# Altium schematic symbol library myConnectors.SchLib: 60 symbols
Pins are listed as number, name and electrical type; pins without a type are passive.

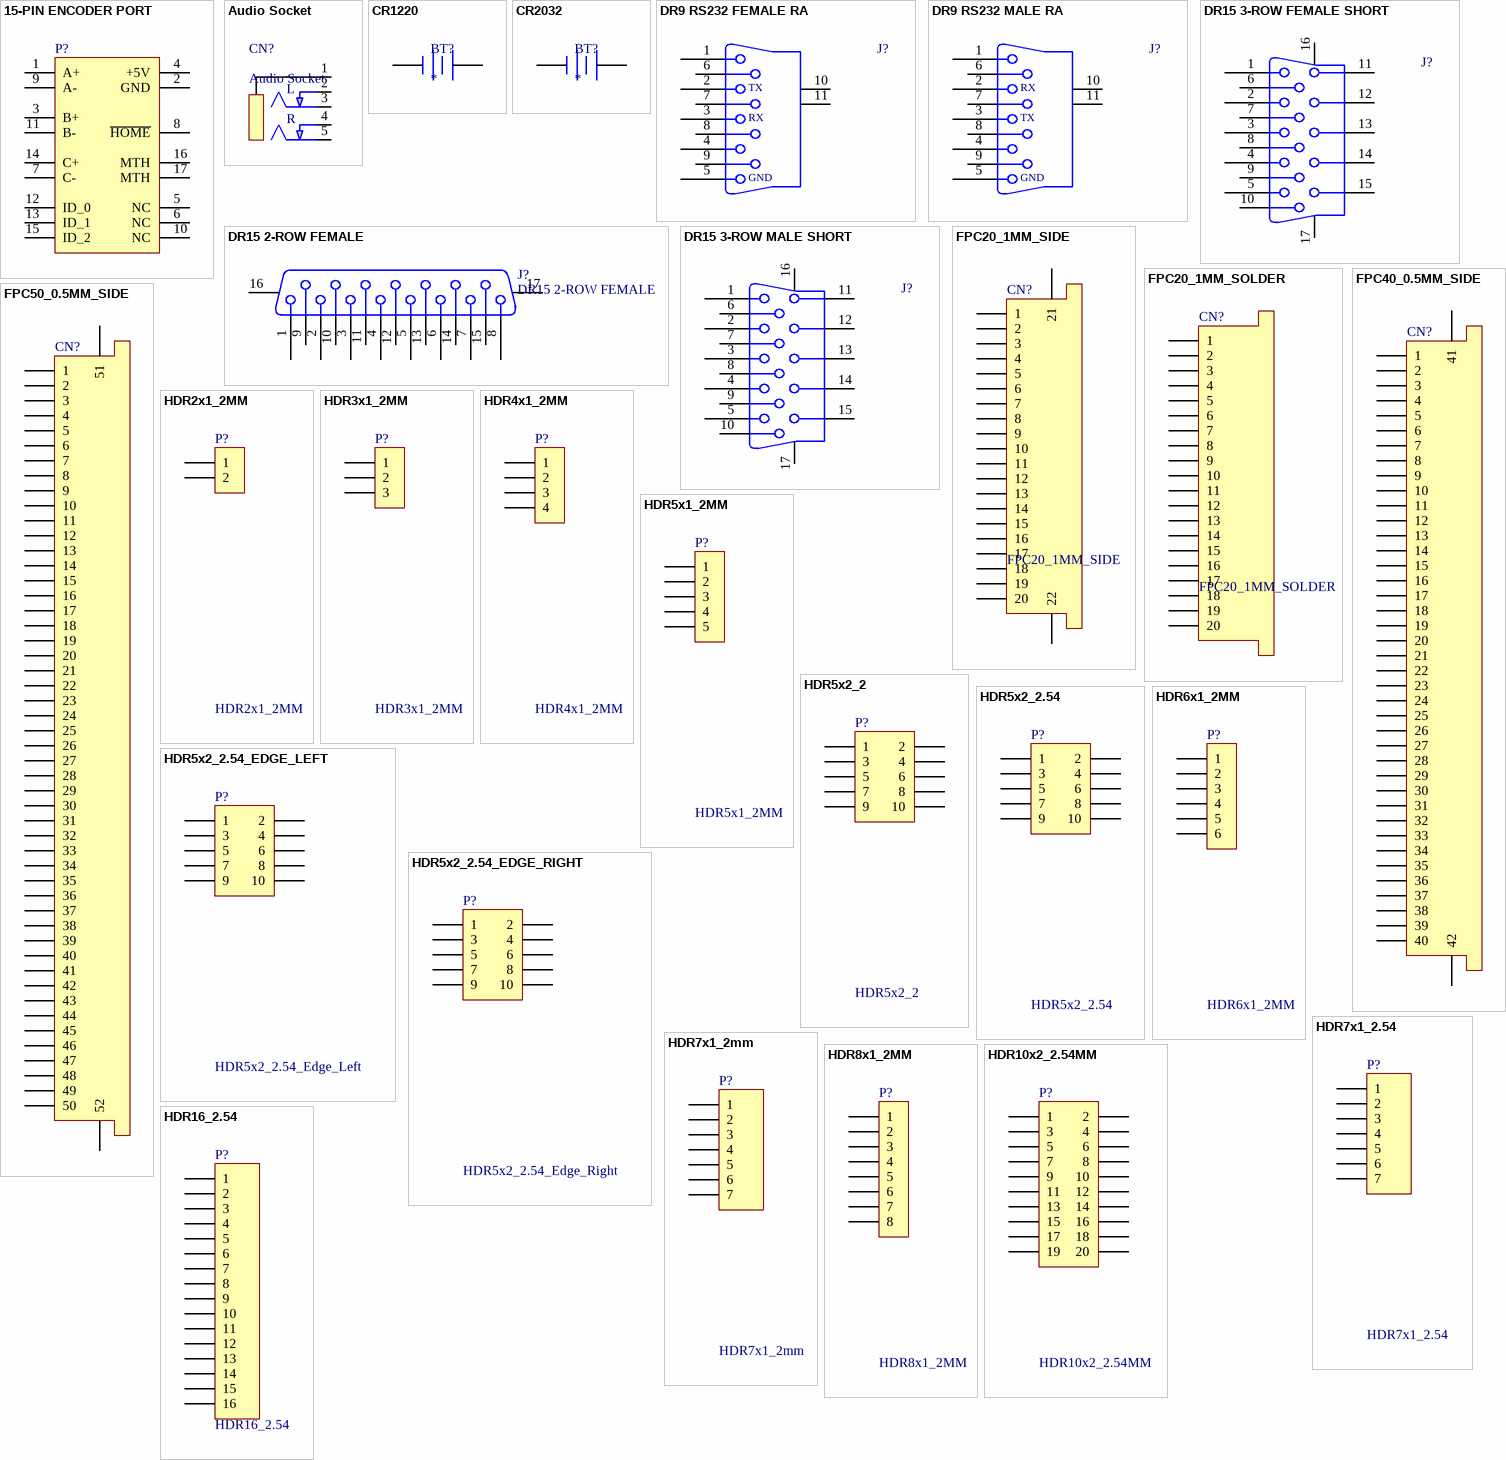
[diagram p0: symbols 15-PIN ENCODER PORT to HDR16_2.54]

## 15-PIN ENCODER PORT
designator P?, comment 15-PIN ENC PORT  (value not drawn)
LatestRevisionDate: 17-Jul-2002; LatestRevisionNote: Re-released for DXP Platform.; Publisher: Altium Limited
footprint DR15 FEMALE RA SHORT _PRE (15-PIN FEMALE, 3-ROW, RIGHT ANGLE, SHORT)
pins: 1 A+, 2 GND, 3 B+, 4 +5V, 5 NC, 6 NC, 7 C-, 8 ~{HOME}, 9 A-, 10 NC, 11 B-, 12 ID_0, 13 ID_1, 14 C+, 15 ID_2, 16 MTH, 17 MTH

## Audio Socket
designator CN?
Audio Socket, Stereo
footprint Audio Socket
pins: 1 GND, 2 L "isolated when inserted", 3 L "always connected", 4 R "isolated when inserted", 5 R "always connected"

## CR1220
designator BT?
CR1220 Battery Holder
footprint CR1220
pins: 1 +, 2 -

## CR2032
designator BT?
CR1220 Battery Holder
footprint CR2032
pins: 1 +, 2 -

## DR9 RS232 FEMALE RA
designator J?  (value not drawn)
PackageDocument: O; Positions: 9; Gender: Receptacle; Published: 15-Jun-2001; LatestRevisionDate: 17-Jul-2002; LatestRevisionNote: Re-released for DXP Platform.; DatasheetDocument: 1-Sep-1999; PackageReference: 788750; Publisher: Altium Limited; Orientation: Right Angle
footprint DR9 RS232 FEMALE RA (9-PIN PORT FEMALE, RIGHT ANGLE)
pins: 1, 2, 3, 4, 5, 6, 7, 8, 9, 10 MH1, 11 MH2
text: TX; RX; GND

## DR9 RS232 MALE RA
designator J?  (value not drawn)
PackageDocument: O; Positions: 9; Gender: Receptacle; Published: 15-Jun-2001; LatestRevisionDate: 17-Jul-2002; LatestRevisionNote: Re-released for DXP Platform.; DatasheetDocument: 1-Sep-1999; PackageReference: 788750; Publisher: Altium Limited; Orientation: Right Angle
footprint DR9 RS232 MALE RA (9-PIN PORT MALE, RIGHT ANGLE)
pins: 1, 2, 3, 4, 5, 6, 7, 8, 9, 10 MH1, 11 MH2
text: RX; TX; GND

## DR15 2-ROW FEMALE
designator J?
DR15 FEMALE RA; PackageDocument: O; Positions: 15; Gender: Receptacle; Published: 15-Jun-2001; LatestRevisionDate: 17-Jul-2002; LatestRevisionNote: Re-released for DXP Platform.; DatasheetDocument: 1-Sep-99; PackageReference: 788757; Publisher: Altium Limited; Orientation: Right Angle
footprint DR15_FEMALE (Connector; D Subminiature; 15 Position; Right Angle; Pitch 1.385 mm)
pins: 1, 2, 3, 4, 5, 6, 7, 8, 9, 10, 11, 12, 13, 14, 15, 16 MH1, 17 MH2

## DR15 3-ROW FEMALE SHORT
designator J?, comment DR15 3-ROW FEMALE  (value not drawn)
DR15 FEMALE RA; PackageDocument: O; Positions: 9; Gender: Receptacle; Published: 15-Jun-2001; LatestRevisionDate: 17-Jul-2002; LatestRevisionNote: Re-released for DXP Platform.; DatasheetDocument: 1-Sep-1999; PackageReference: 788750; Publisher: Altium Limited; Orientation: Right Angle
footprint DR15 FEMALE RA SHORT _PRE (15-PIN FEMALE, 3-ROW, RIGHT ANGLE, SHORT)
pins: 1, 2, 3, 4, 5, 6, 7, 8, 9, 10, 11, 12, 13, 14, 15, 16 MH1, 17 MH2

## DR15 3-ROW MALE SHORT
designator J?, comment DR15 3-ROW MALE  (value not drawn)
DR15 MALE RA; PackageDocument: O; Positions: 9; Gender: Receptacle; Published: 15-Jun-2001; LatestRevisionDate: 17-Jul-2002; LatestRevisionNote: Re-released for DXP Platform.; DatasheetDocument: 1-Sep-1999; PackageReference: 788750; Publisher: Altium Limited; Orientation: Right Angle
footprint DR15 MALE RA SHORT _PRE (15-PIN MALE, 3-ROW, RIGHT ANGLE, SHORT)
pins: 1, 2, 3, 4, 5, 6, 7, 8, 9, 10, 11, 12, 13, 14, 15, 16 MH1, 17 MH2

## FPC20_1MM_SIDE
designator CN?
FPC Socket, 1mm pitch, 20-Pin, Side Mount; LatestRevisionDate: 17-Jul-2002; LatestRevisionNote: Re-released for DXP Platform.; Publisher: Altium Limited
footprint FPC20_1MM_SIDE (FPC Socket, 1mm pitch, 20-Pin, Side Mount)
pins: 1, 2, 3, 4, 5, 6, 7, 8, 9, 10, 11, 12, 13, 14, 15, 16, 17, 18, 19, 20, 21, 22

## FPC20_1MM_SOLDER
designator CN?
FPC Socket, 1mm pitch, 20-Pin, Solder Mount; LatestRevisionDate: 17-Jul-2002; LatestRevisionNote: Re-released for DXP Platform.; Publisher: Altium Limited
footprint FPC20_1mm Solder (FPC 20-Pin, Solder Pads)
pins: 1, 2, 3, 4, 5, 6, 7, 8, 9, 10, 11, 12, 13, 14, 15, 16, 17, 18, 19, 20

## FPC40_0.5MM_SIDE
designator CN?  (value not drawn)
FPC Socket, 0.5mm pitch, 40-Pin, Side Mount; LatestRevisionDate: 17-Jul-2002; LatestRevisionNote: Re-released for DXP Platform.; Publisher: Altium Limited
footprint FPC40_0.5MM_SIDE (FPC Socket, 0.5mm pitch, 40-Pin, Side Mount)
pins: 1, 2, 3, 4, 5, 6, 7, 8, 9, 10, 11, 12, 13, 14, 15, 16, 17, 18, 19, 20, 21, 22, 23, 24, 25, 26, 27, 28, 29, 30, 31, 32, 33, 34, 35, 36, 37, 38, 39, 40, 41, 42

## FPC50_0.5MM_SIDE
designator CN?  (value not drawn)
FPC Socket, 0.5mm pitch, 50-Pin, Side Mount; LatestRevisionDate: 17-Jul-2002; LatestRevisionNote: Re-released for DXP Platform.; Publisher: Altium Limited
footprint FPC50_0.5MM_SIDE (FPC Socket, 0.5mm pitch, 50-Pin, Side Mount)
pins: 1, 2, 3, 4, 5, 6, 7, 8, 9, 10, 11, 12, 13, 14, 15, 16, 17, 18, 19, 20, 21, 22, 23, 24, 25, 26, 27, 28, 29, 30, 31, 32, 33, 34, 35, 36, 37, 38, 39, 40, 41, 42, 43, 44, 45, 46, 47, 48, 49, 50, 51, 52

## HDR2x1_2MM
designator P?
Header, 2-Pin, 1-Row, 2mm Pitch; LatestRevisionDate: 17-Jul-2002; LatestRevisionNote: Re-released for DXP Platform.; Publisher: Altium Limited
footprint HDR2x1_2mm
pins: 1, 2

## HDR3x1_2MM
designator P?
Header, 3-Pin, 1-Row, 2mm Pitch; LatestRevisionDate: 17-Jul-2002; LatestRevisionNote: Re-released for DXP Platform.; Publisher: Altium Limited
footprint HDR3x1_2mm
pins: 1, 2, 3

## HDR4x1_2MM
designator P?
Header, 4-Pin, 1-Row, 2mm Pitch; LatestRevisionDate: 17-Jul-2002; LatestRevisionNote: Re-released for DXP Platform.; Publisher: Altium Limited
footprint HDR4x1_1
pins: 1, 2, 3, 4

## HDR5x1_2MM
designator P?
Header, 5-Pin, 1-Row, 2mm Pitch; LatestRevisionDate: 17-Jul-2002; LatestRevisionNote: Re-released for DXP Platform.; Publisher: Altium Limited
footprint HDR5x1_2mm
pins: 1, 2, 3, 4, 5

## HDR5x2_2
designator P?
Header, 10-Pin, 2-Row, 2mm Pitch; LatestRevisionDate: 17-Jul-2002; LatestRevisionNote: Re-released for DXP Platform.; Publisher: Altium Limited
footprint HDR5x2_2
pins: 1, 2, 3, 4, 5, 6, 7, 8, 9, 10

## HDR5x2_2.54
designator P?
Header, 10-Pin, 2-Row; LatestRevisionDate: 17-Jul-2002; LatestRevisionNote: Re-released for DXP Platform.; Publisher: Altium Limited
footprint HDR5x2_2.54
pins: 1, 2, 3, 4, 5, 6, 7, 8, 9, 10

## HDR5x2_2.54_EDGE_LEFT
designator P?, comment HDR5x2_2.54_Edge_Left
Header, 10-Pin, 2-Row; LatestRevisionDate: 17-Jul-2002; LatestRevisionNote: Re-released for DXP Platform.; Publisher: Altium Limited
footprint HDR5X2_2.54_EDGE_LEFT
pins: 1, 2, 3, 4, 5, 6, 7, 8, 9, 10

## HDR5x2_2.54_EDGE_RIGHT
designator P?, comment HDR5x2_2.54_Edge_Right
Header, 10-Pin, 2-Row; LatestRevisionDate: 17-Jul-2002; LatestRevisionNote: Re-released for DXP Platform.; Publisher: Altium Limited
footprint HDR5X2_2.54_EDGE_RIGHT
pins: 1, 2, 3, 4, 5, 6, 7, 8, 9, 10

## HDR6x1_2MM
designator P?
Header, 6-Pin, 1-Row, 2mm Pitch; LatestRevisionDate: 17-Jul-2002; LatestRevisionNote: Re-released for DXP Platform.; Publisher: Altium Limited
footprint HDR6x1_2mm
pins: 1, 2, 3, 4, 5, 6

## HDR7x1_2.54
designator P?
Header, 7-Pin, 1-Row; LatestRevisionDate: 17-Jul-2002; LatestRevisionNote: Re-released for DXP Platform.; Publisher: Altium Limited
footprint HDR7x1_2.54
pins: 1, 2, 3, 4, 5, 6, 7

## HDR7x1_2mm
designator P?
Header, 7-Pin, 1-Row, 2mm-Pitch; LatestRevisionDate: 17-Jul-2002; LatestRevisionNote: Re-released for DXP Platform.; Publisher: Altium Limited
footprint HDR7x1_2mm
pins: 1, 2, 3, 4, 5, 6, 7

## HDR8x1_2MM
designator P?
Header, 8-Pin, 1-Row, 2mm Pitch; LatestRevisionDate: 17-Jul-2002; LatestRevisionNote: Re-released for DXP Platform.; Publisher: Altium Limited
footprint HDR8x1_2mm
pins: 1, 2, 3, 4, 5, 6, 7, 8

## HDR10x2_2.54MM
designator P?
Header, 10x2-Pin, 1-Row, 2.54mm Pitch; LatestRevisionDate: 17-Jul-2002; LatestRevisionNote: Re-released for DXP Platform.; Publisher: Altium Limited
footprint HDR10x2_2.54
pins: 1, 2, 3, 4, 5, 6, 7, 8, 9, 10, 11, 12, 13, 14, 15, 16, 17, 18, 19, 20

## HDR16_2.54
designator P?
Header, 16-Pin; LatestRevisionDate: 17-Jul-2002; LatestRevisionNote: Re-released for DXP Platform.; Publisher: Altium Limited
footprint HDR16_2.54 (Connector; Header; 16 Position)
pins: 1, 2, 3, 4, 5, 6, 7, 8, 9, 10, 11, 12, 13, 14, 15, 16

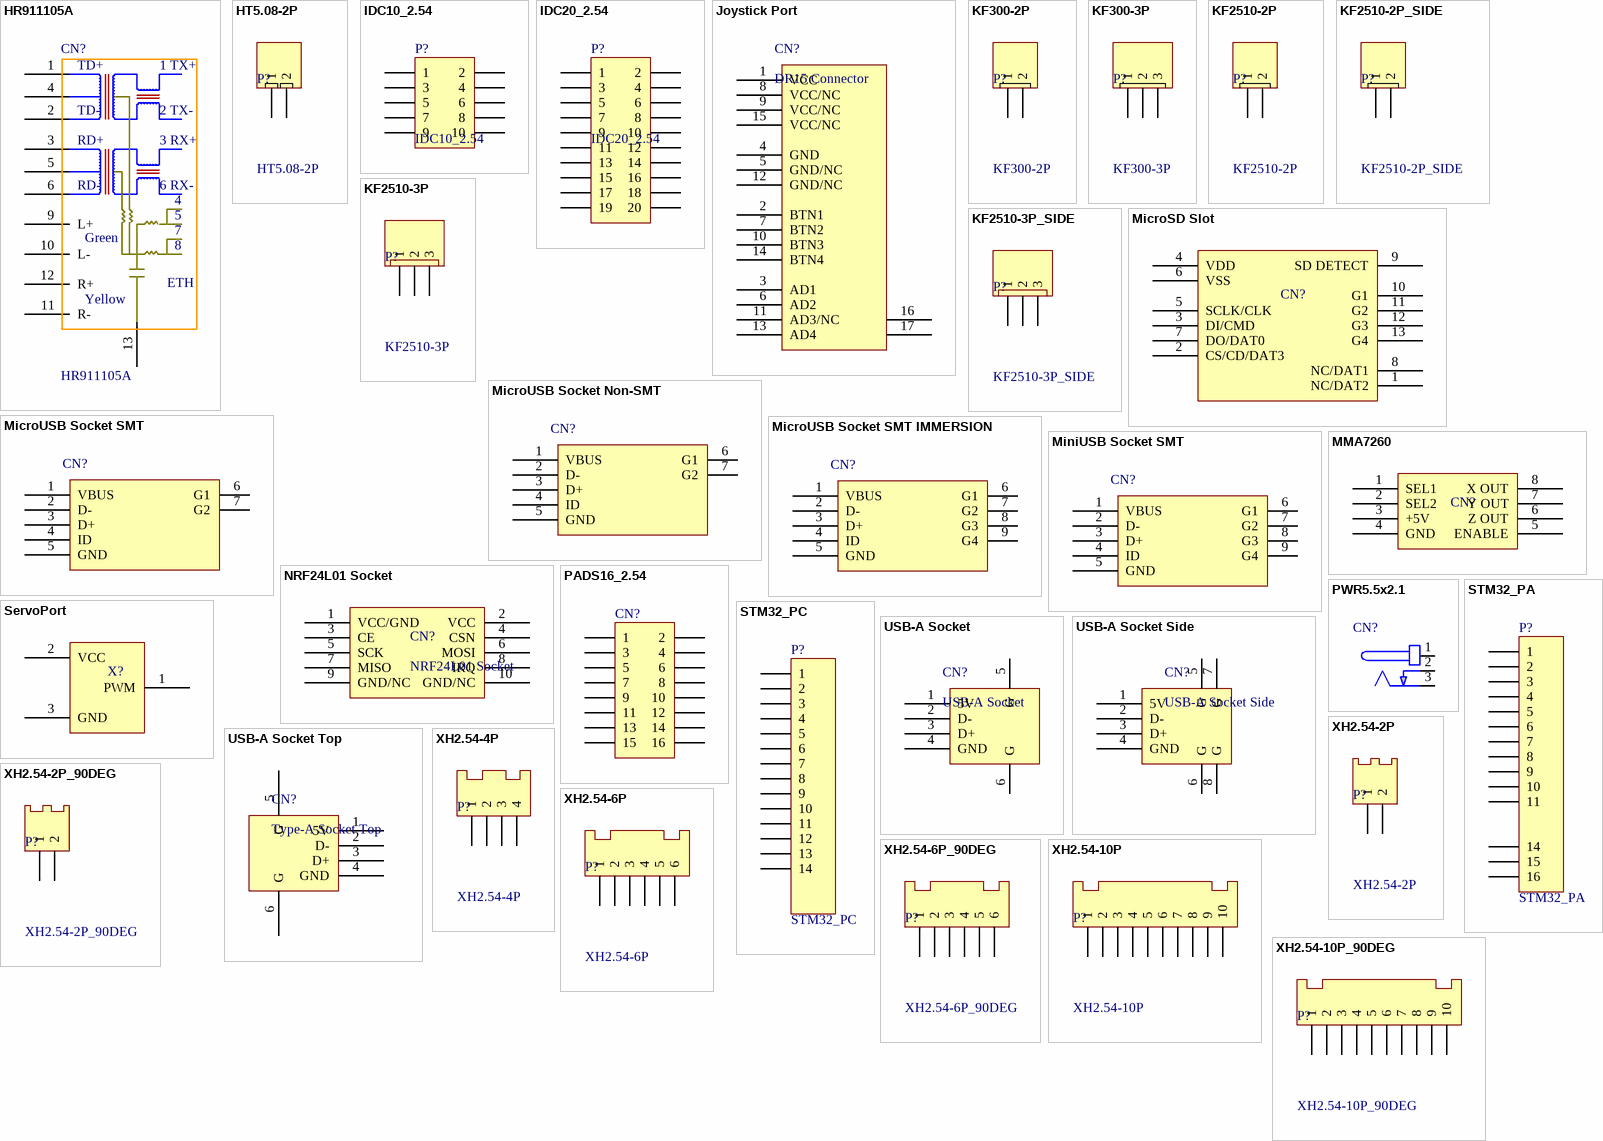
[diagram p1: symbols HR911105A to XH2.54-10P_90DEG]

## HR911105A
designator CN?
Ethernet Socket with Transformer
footprint HR911105A (Ethernet Socket with Transformer)
pins: 1, 2, 3, 4, 5, 6, 9 L+, 10 L-, 11 R-, 12 R+, 13
2 alternate drawings of the same symbol
text: TD+; 1 TX+; TD-; 2 TX-; RD+; 3 RX+; RD-; 6 RX-; 7; Green; 8; ETH; Yellow

## HT5.08-2P
designator P?
LatestRevisionDate: 17-Jul-2002; LatestRevisionNote: Re-released for DXP Platform.; Publisher: Altium Limited
footprint HT5.08-2P_TOP
pins: 1, 2

## IDC10_2.54
designator P?
LatestRevisionDate: 17-Jul-2002; LatestRevisionNote: Re-released for DXP Platform.; Publisher: Altium Limited
footprint IDC10_2.54
pins: 1, 2, 3, 4, 5, 6, 7, 8, 9, 10

## IDC20_2.54
designator P?
LatestRevisionDate: 17-Jul-2002; LatestRevisionNote: Re-released for DXP Platform.; Publisher: Altium Limited
footprint IDC20_2.54
pins: 1, 2, 3, 4, 5, 6, 7, 8, 9, 10, 11, 12, 13, 14, 15, 16, 17, 18, 19, 20

## Joystick Port
designator CN?, comment DR15 Connector
footprint DR15_FEMALE (Connector; D Subminiature; 15 Position; Right Angle; Pitch 1.385 mm)
pins: 1 VCC, 2 BTN1, 3 AD1, 4 GND, 5 GND/NC, 6 AD2, 7 BTN2, 8 VCC/NC, 9 VCC/NC, 10 BTN3, 11 AD3/NC, 12 GND/NC, 13 AD4, 14 BTN4, 15 VCC/NC, 16, 17

## KF300-2P
designator P?
LatestRevisionDate: 17-Jul-2002; LatestRevisionNote: Re-released for DXP Platform.; Publisher: Altium Limited
footprint KF300-2P
pins: 1, 2

## KF300-3P
designator P?
LatestRevisionDate: 17-Jul-2002; LatestRevisionNote: Re-released for DXP Platform.; Publisher: Altium Limited
footprint KF300-3P
pins: 1, 2, 3

## KF2510-2P
designator P?
LatestRevisionDate: 17-Jul-2002; LatestRevisionNote: Re-released for DXP Platform.; Publisher: Altium Limited
footprint KF2510-2P
pins: 1, 2

## KF2510-2P_SIDE
designator P?
KF2510-2P; LatestRevisionDate: 17-Jul-2002; LatestRevisionNote: Re-released for DXP Platform.; Publisher: Altium Limited
footprint KF2510-2P - Side
pins: 1, 2

## KF2510-3P
designator P?
LatestRevisionDate: 17-Jul-2002; LatestRevisionNote: Re-released for DXP Platform.; Publisher: Altium Limited
footprint KF2510-3P
pins: 1, 2, 3

## KF2510-3P_SIDE
designator P?
KF2510-3P; LatestRevisionDate: 17-Jul-2002; LatestRevisionNote: Re-released for DXP Platform.; Publisher: Altium Limited
footprint KF2510-3P - Side
pins: 1, 2, 3

## MicroSD Slot
designator CN?  (value not drawn)
footprint MICROSD Slot (MicroSD Card Socket)
pins: 1 NC/DAT2, 2 CS/CD/DAT3, 3 DI/CMD, 4 VDD, 5 SCLK/CLK, 6 VSS, 7 DO/DAT0, 8 NC/DAT1, 9 SD DETECT, 10 G1, 11 G2, 12 G3, 13 G4

## MicroUSB Socket Non-SMT
designator CN?  (value not drawn)
footprint MicroUSB Socket Non-SMT (Connector; USB2.0, Micro, SM; 5 Position; Right Angle)
pins: 1 VBUS, 2 D-, 3 D+, 4 ID, 5 GND, 6 G1, 7 G2

## MicroUSB Socket SMT
designator CN?  (value not drawn)
footprint MicroUSB Socket SMT (Connector; USB2.0, Micro, SM; 5 Position; Right Angle)
pins: 1 VBUS, 2 D-, 3 D+, 4 ID, 5 GND, 6 G1, 7 G2

## MicroUSB Socket SMT IMMERSION
designator CN?  (value not drawn)
footprint MicroUSB Socket SMT IMMERSION (Connector; USB2.0, Micro, SM; 5 Position; Right Angle)
pins: 1 VBUS, 2 D-, 3 D+, 4 ID, 5 GND, 6 G1, 7 G2, 8 G3, 9 G4

## MiniUSB Socket SMT
designator CN?  (value not drawn)
footprint MiniUSB Socket SMT (Connector; USB2.0, Type B, SM; 5 Position; Right Angle)
pins: 1 VBUS, 2 D-, 3 D+, 4 ID, 5 GND, 6 G1, 7 G2, 8 G3, 9 G4

## MMA7260
designator CN?  (value not drawn)
MMA7260 Accelerometer
footprint MMA7260
pins: 1 SEL1, 2 SEL2, 3 +5V, 4 GND, 5 ENABLE, 6 Z OUT, 7 Y OUT, 8 X OUT

## NRF24L01 Socket
designator CN?
footprint NRF24L01 Socket
pins: 1 VCC/GND, 2 VCC, 3 CE, 4 CSN, 5 SCK, 6 MOSI, 7 MISO, 8 IRQ, 9 GND/NC, 10 GND/NC

## PADS16_2.54
designator CN?  (value not drawn)
Header, 8-Pin, Dual row; LatestRevisionDate: 17-Jul-2002; LatestRevisionNote: Re-released for DXP Platform.; Publisher: Altium Limited
footprint PADS16_2.54 (Surface Soldering Pads)
pins: 1, 2, 3, 4, 5, 6, 7, 8, 9, 10, 11, 12, 13, 14, 15, 16

## PWR5.5x2.1
designator CN?  (value not drawn)
footprint PWR5.5x2.1
pins: 1 +, 2 GND "isolated when connected", 3 GND "always connected"

## ServoPort
designator X?  (value not drawn)
footprint ServoPort
pins: 1 PWM, 2 VCC, 3 GND

## STM32_PA
designator P?
Header, 16-Pin; LatestRevisionDate: 17-Jul-2002; LatestRevisionNote: Re-released for DXP Platform.; Publisher: Altium Limited
footprint STM32_PA (Connector; Header; 16 Position)
pins: 1, 2, 3, 4, 5, 6, 7, 8, 9, 10, 11, 14, 15, 16

## STM32_PC
designator P?
Header, 16-Pin; LatestRevisionDate: 17-Jul-2002; LatestRevisionNote: Re-released for DXP Platform.; Publisher: Altium Limited
footprint STM32_PC (Connector; Header; 16 Position)
pins: 1, 2, 3, 4, 5, 6, 7, 8, 9, 10, 11, 12, 13, 14

## USB-A Socket
designator CN?
footprint USB-A SOCKET
pins: 1 5V, 2 D-, 3 D+, 4 GND, 5 G, 6 G

## USB-A Socket Side
designator CN?
footprint USB-A Socket Side
pins: 1 5V, 2 D-, 3 D+, 4 GND, 5 G, 6 G, 7 G, 8 G

## USB-A Socket Top
designator CN?, comment Type-A Socket Top
footprint USB-A Socket Top
pins: 1 5V, 2 D-, 3 D+, 4 GND, 5 G, 6 G

## XH2.54-2P
designator P?
LatestRevisionDate: 17-Jul-2002; LatestRevisionNote: Re-released for DXP Platform.; Publisher: Altium Limited
footprint XH2.54-2P
pins: 1, 2

## XH2.54-2P_90DEG
designator P?
XH2.54-2P, 90DEG; LatestRevisionDate: 17-Jul-2002; LatestRevisionNote: Re-released for DXP Platform.; Publisher: Altium Limited
footprint XH2.54-2P_90DEG
pins: 1, 2

## XH2.54-4P
designator P?
LatestRevisionDate: 17-Jul-2002; LatestRevisionNote: Re-released for DXP Platform.; Publisher: Altium Limited
footprint XH2.54-4P
pins: 1, 2, 3, 4

## XH2.54-6P
designator P?
LatestRevisionDate: 17-Jul-2002; LatestRevisionNote: Re-released for DXP Platform.; Publisher: Altium Limited
footprint XH2.54-6P
pins: 1, 2, 3, 4, 5, 6

## XH2.54-6P_90DEG
designator P?
XH2.54-6P, 90DEG; LatestRevisionDate: 17-Jul-2002; LatestRevisionNote: Re-released for DXP Platform.; Publisher: Altium Limited
footprint XH2.54-6P_90DEG
pins: 1, 2, 3, 4, 5, 6

## XH2.54-10P
designator P?
LatestRevisionDate: 17-Jul-2002; LatestRevisionNote: Re-released for DXP Platform.; Publisher: Altium Limited
footprint XH2.54-10P
pins: 1, 2, 3, 4, 5, 6, 7, 8, 9, 10

## XH2.54-10P_90DEG
designator P?
XH2.54-10P, 90DEG; LatestRevisionDate: 17-Jul-2002; LatestRevisionNote: Re-released for DXP Platform.; Publisher: Altium Limited
footprint XH2.54-10P_90DEG
pins: 1, 2, 3, 4, 5, 6, 7, 8, 9, 10